# Altium schematic symbol library RC0402FR-0710KL.SchLib: 1 symbol
Pins are listed as number, name and electrical type; pins without a type are passive.

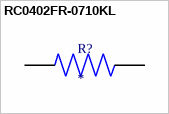
[diagram p0: symbol RC0402FR-0710KL]

## RC0402FR-0710KL
designator R?
MF: {'manufacturer': u'YAGEO'}; MP: RC0402FR-0710KL; Package: None; Price: None; Value: *; Availability: Unavailable
footprint RESC1005X40N
pins: 1, 2